# EAGLE library part ICSP_PROGRAM (library pov_class)
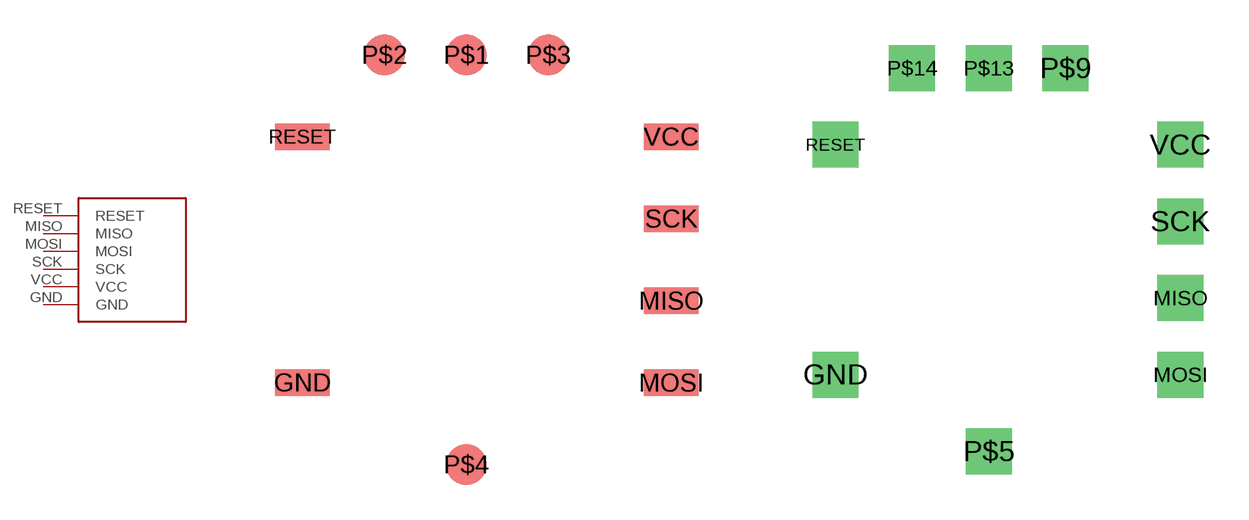
[diagram p0: symbol with the pads of ATTINY_PROGRAM_SMD_HEADER; footprints ATTINY_PROGRAM_SMD_HEADER, ATTINY_PROGRAM_THROUGH_HOLE_HEADER]

Designator prefix -

## ICSP_PROGRAMSMD  [ATTINY_PROGRAM_SMD_HEADER]
GND  GND
MISO  MISO
MOSI  MOSI
RESET  RESET
SCK  SCK
VCC  VCC

## ICSP_PROGRAMTHRU_HOLE  [ATTINY_PROGRAM_THROUGH_HOLE_HEADER]
Pads as for ATTINY_PROGRAM_SMD_HEADER

## ICSP_PROGRAM  [POV_ISP_CONNECTOR]
Pads as for ATTINY_PROGRAM_SMD_HEADER

## Footprint ATTINY_PROGRAM_SMD_HEADER (pad centres in mm)
smd 1.676 x 0.813: GND -5.715,-3.81; MISO 5.715,-1.27; MOSI 5.715,-3.81; RESET -5.715,3.81; SCK 5.715,1.27; VCC 5.715,3.81
smd 1.27 x 1.27: P$1 -0.635,6.35; P$2 -3.175,6.35; P$3 1.905,6.35; P$4 -0.635,-6.35

## Footprint ATTINY_PROGRAM_THROUGH_HOLE_HEADER (pad centres in mm)
drill 1.016 square: GND -5.715,-3.81; MISO 5.715,-1.27; MOSI 5.715,-3.81; P$5 -0.635,-6.35; P$9 1.905,6.35; P$13 -0.635,6.35; P$14 -3.175,6.35; RESET -5.715,3.81; SCK 5.715,1.27; VCC 5.715,3.81

## Footprint POV_ISP_CONNECTOR (pad centres in mm)
smd 6 x 1.778: GND 0,-2.54; MISO 0,2.54; MOSI 0,0; RESET 0,-5.08; SCK 0,5.08; VCC 0,7.62